# Altium schematic symbol library DIP_SW_4.Schlib: 1 symbol
Pins are listed as number, name and electrical type; pins without a type are passive.

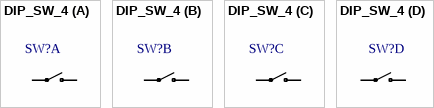
[diagram p0: symbol DIP_SW_4]

## DIP_SW_4
designator SW?  (value not drawn)
4-Element DIP Switch
part A pins: 1, 8
part B pins: 2, 7
part C pins: 3, 6
part D pins: 4, 5